# EAGLE library part DUAL-INVERTER (library matlock)
dual inverter such that Ai = Qi for i in {1,2}
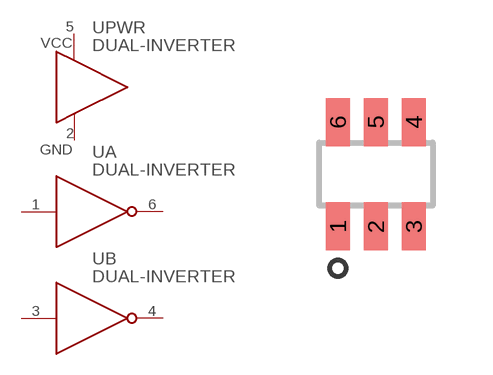
[diagram p9: symbol with the pads of SOT23-6; footprint SOT23-6]

Designator prefix U; gates PWR=LOGIC-POWER A=LOGIC-INVERTER B=LOGIC-INVERTER

## DUAL-INVERTER-SN74LVC2G14  [SOT23-6]
1  A:A
2  PWR:GND
3  B:A
4  B:Q
5  PWR:VCC
6  A:Q

## Footprint SOT23-6 (pad centres in mm)
smd 0.6 x 1.2: 1 -0.95,-1.306; 2 0,-1.306; 3 0.95,-1.306; 4 0.95,1.306; 5 0,1.306; 6 -0.95,1.306